# Altium footprint library HOLYBRO.PcbLib: 1 footprints
Each footprint in its own frame and in the unit in brackets; x right, y up, seen from the top. Pads: shape width x height; smd on the part's side, far side on the other; paste and mask are expansions set on the pad; w line width, h text height; cw(c..) or ccw(c..) is an arc to the next point about the centre after c.
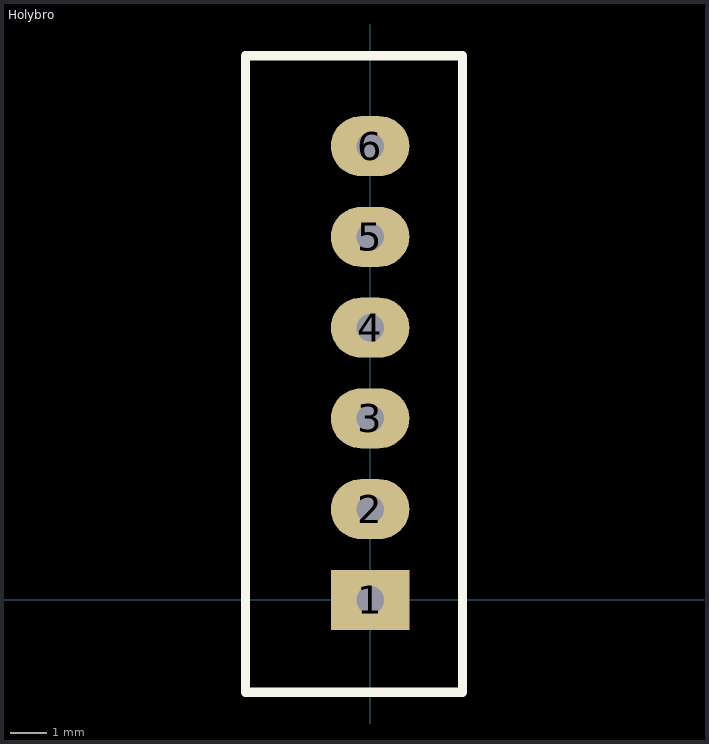
[diagram p0: the footprint, top view; thin cyan lines are the x and y axes]

## Holybro [mil]
pads (6):
  rect 85x65 hole 30: 1(0,0)
  oval 85x65 hole 30: 2(0,98.43) 3(0,196.85) 4(0,295.28) 5(0,393.7) 6(0,492.13)
Top Overlay:
  lines w10: -135,-100 100,-100 100,590 -135,590 -135,-100
3D body "JST - XH - Thru (V) - 6Pin - 2.54mm.stp": height 284, standoff -118, extent -130,-97 100,587